# EAGLE library part 8700-PLA (library crasbe)
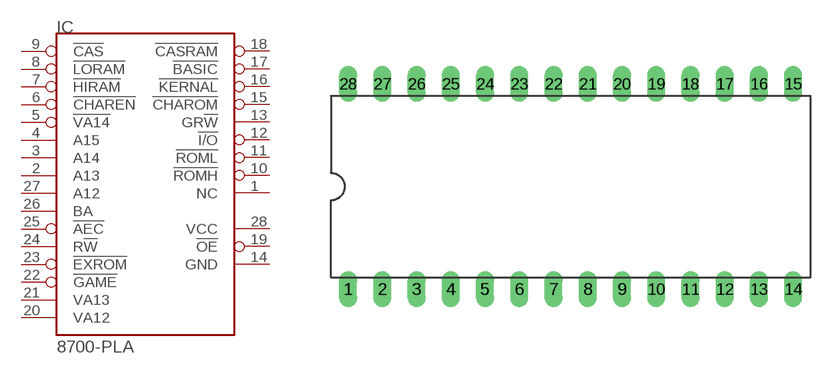
[diagram p15: symbol with the pads of DIL28; footprint DIL28]

Designator prefix IC

## 8700-PLA  [DIL28]
1  NC  nc
2  A13  in
3  A14  in
4  A15  in
5  !VA14  in
6  !CHAREN  in
7  !HIRAM  in
8  !LORAM  in
9  !CAS  in
10  !ROMH  out
11  !ROML  out
12  !I/O  out
13  GR!W  out
14  GND  pwr
15  !CHAROM  out
16  !KERNAL  out
17  !BASIC  out
18  !CASRAM  out
19  !OE  in
20  VA12  in
21  VA13  in
22  !GAME  in
23  !EXROM  in
24  R!W  in
25  !AEC  in
26  BA  in
27  A12  in
28  VCC  pwr

## Footprint DIL28 (pad centres in mm)
drill 0.813 long: 1 -16.51,-7.62; 2 -13.97,-7.62; 3 -11.43,-7.62; 4 -8.89,-7.62; 5 -6.35,-7.62; 6 -3.81,-7.62; 7 -1.27,-7.62; 8 1.27,-7.62; 9 3.81,-7.62; 10 6.35,-7.62; 11 8.89,-7.62; 12 11.43,-7.62; 13 13.97,-7.62; 14 16.51,-7.62; 15 16.51,7.62; 16 13.97,7.62; 17 11.43,7.62; 18 8.89,7.62; 19 6.35,7.62; 20 3.81,7.62; 21 1.27,7.62; 22 -1.27,7.62; 23 -3.81,7.62; 24 -6.35,7.62; 25 -8.89,7.62; 26 -11.43,7.62; 27 -13.97,7.62; 28 -16.51,7.62